# EAGLE library part TLV9304IDR (library TLV9304IDR)
Operational Amplifiers - Op Amps Quad 1MHz, 40-V, RRO, MUX-friendly operational amplifier for cost-sensitive systems 14-SOIC -40 to 125 Source: Datasheet <http://www.ti.com/lit/gpn/tlv9304>
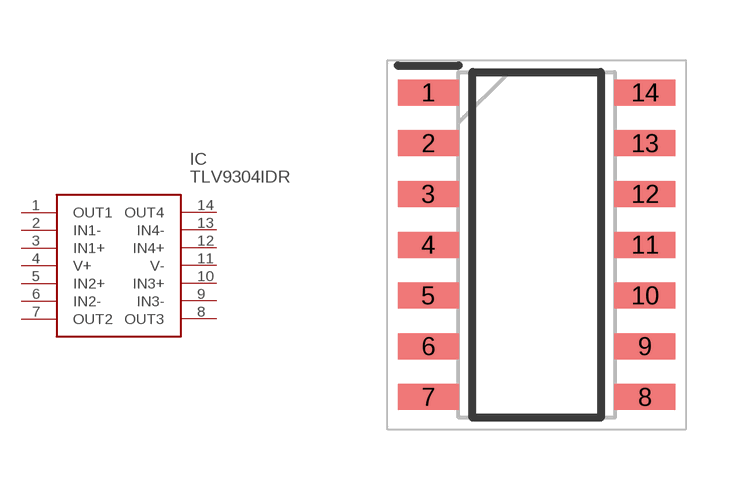
[diagram p0: symbol with the pads of SOIC127P600X175-14N; footprint SOIC127P600X175-14N]

Designator prefix IC

## TLV9304IDR (Description: Operational Amplifiers - Op Amps Quad 1MHz, 40-V, RRO, MUX-friendly operational amplifier for cost-sensitive systems 14-SOIC -40 to 125; Height: 1.75mm; Manufacturer_Name: Texas Instruments; Manufacturer_Part_Number: TLV9304IDR; Mouser_Part_Number: 595-TLV9304IDR; Mouser_Price-Stock: https://www.mouser.co.uk/ProductDetail/Texas-Instruments/TLV9304IDR?qs=P1JMDcb91o4JQ6%2FxIzVZ4Q%3D%3D)  [SOIC127P600X175-14N]
1  OUT1
2  IN1-
3  IN1+
4  V+
5  IN2+
6  IN2-
7  OUT2
8  OUT3
9  IN3-
10  IN3+
11  V-
12  IN4+
13  IN4-
14  OUT4

## Footprint SOIC127P600X175-14N (pad centres in mm)
D
smd 1.525 x 0.65: 1 -2.712,3.81; 2 -2.712,2.54; 3 -2.712,1.27; 4 -2.712,0; 5 -2.712,-1.27; 6 -2.712,-2.54; 7 -2.712,-3.81; 8 2.712,-3.81; 9 2.712,-2.54; 10 2.712,-1.27; 11 2.712,0; 12 2.712,1.27; 13 2.712,2.54; 14 2.712,3.81